# Altium footprint library IC-WBGA.PcbLib: 2 footprints
Each footprint in its own frame and in the unit in brackets; x right, y up, seen from the top. Pads: shape width x height; smd on the part's side, far side on the other; paste and mask are expansions set on the pad; w line width, h text height; cw(c..) or ccw(c..) is an arc to the next point about the centre after c.
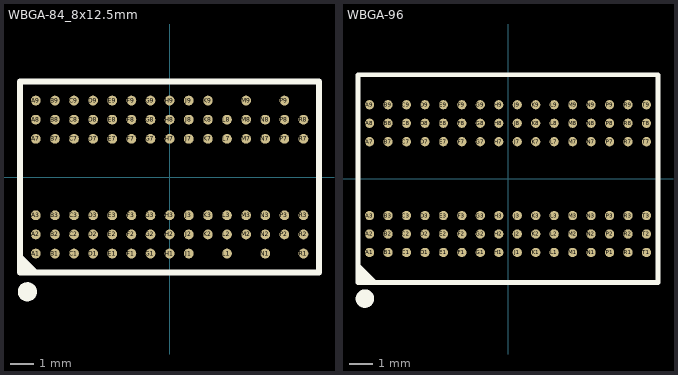
[diagram p0: the footprints below, top view; thin cyan lines are the x and y axes]

## WBGA-84_8x12.5mm [mm]
pads (84):
  round 0.41 smd mask+0.051: A1(-5.6,-3.2) A2(-5.6,-2.4) A3(-5.6,-1.6) A7(-5.6,1.6) A8(-5.6,2.4) A9(-5.6,3.2) B1(-4.8,-3.2) B2(-4.8,-2.4) B3(-4.8,-1.6) B7(-4.8,1.6) B8(-4.8,2.4) B9(-4.8,3.2) C1(-4,-3.2) C2(-4,-2.4) C3(-4,-1.6) C7(-4,1.6) C8(-4,2.4) C9(-4,3.2) D1(-3.2,-3.2) D2(-3.2,-2.4) D3(-3.2,-1.6) D7(-3.2,1.6) D8(-3.2,2.4) D9(-3.2,3.2) E1(-2.4,-3.2) E2(-2.4,-2.4) E3(-2.4,-1.6) E7(-2.4,1.6) E8(-2.4,2.4) E9(-2.4,3.2) F1(-1.6,-3.2) F2(-1.6,-2.4) F3(-1.6,-1.6) F7(-1.6,1.6) F8(-1.6,2.4) F9(-1.6,3.2) G1(-0.8,-3.2) G2(-0.8,-2.4) G3(-0.8,-1.6) G7(-0.8,1.6) G8(-0.8,2.4) G9(-0.8,3.2) H1(0,-3.2) H2(0,-2.4) H3(0,-1.6) H7(0,1.6) H8(0,2.4) H9(0,3.2) J1(0.8,-3.2) J2(0.8,-2.4) J3(0.8,-1.6) J7(0.8,1.6) J8(0.8,2.4) J9(0.8,3.2) K2(1.6,-2.4) K3(1.6,-1.6) K7(1.6,1.6) K8(1.6,2.4) K9(1.6,3.2) L1(2.4,-3.2) L2(2.4,-2.4) L3(2.4,-1.6) L7(2.4,1.6) L8(2.4,2.4) M2(3.2,-2.4) M3(3.2,-1.6) M7(3.2,1.6) M8(3.2,2.4) M9(3.2,3.2) N1(4,-3.2) N2(4,-2.4) N3(4,-1.6) N7(4,1.6) N8(4,2.4) P2(4.8,-2.4) P3(4.8,-1.6) P7(4.8,1.6) P8(4.8,2.4) P9(4.8,3.2) R1(5.6,-3.2) R2(5.6,-2.4) R3(5.6,-1.6) R7(5.6,1.6) R8(5.6,2.4)
Top Overlay:
  circle w0.4: c-5.95,-4.8 r0.2
  region: -6.3,-4.07 -5.369,-4.07 -6.296,-3.143 -6.3,-3.143
  lines w0.254: -6.25,-4 6.25,-4 6.25,4 -6.25,4 -6.25,-4

## WBGA-96 [mm]
pads (96):
  round 0.4 smd mask+0.051: A1(-6,-3.2) A2(-6,-2.4) A3(-6,-1.6) A7(-6,1.6) A8(-6,2.4) A9(-6,3.2) B1(-5.2,-3.2) B2(-5.2,-2.4) B3(-5.2,-1.6) B7(-5.2,1.6) B8(-5.2,2.4) B9(-5.2,3.2) C1(-4.4,-3.2) C2(-4.4,-2.4) C3(-4.4,-1.6) C7(-4.4,1.6) C8(-4.4,2.4) C9(-4.4,3.2) D1(-3.6,-3.2) D2(-3.6,-2.4) D3(-3.6,-1.6) D7(-3.6,1.6) D8(-3.6,2.4) D9(-3.6,3.2) E1(-2.8,-3.2) E2(-2.8,-2.4) E3(-2.8,-1.6) E7(-2.8,1.6) E8(-2.8,2.4) E9(-2.8,3.2) F1(-2,-3.2) F2(-2,-2.4) F3(-2,-1.6) F7(-2,1.6) F8(-2,2.4) F9(-2,3.2) G1(-1.2,-3.2) G2(-1.2,-2.4) G3(-1.2,-1.6) G7(-1.2,1.6) G8(-1.2,2.4) G9(-1.2,3.2) H1(-0.4,-3.2) H2(-0.4,-2.4) H3(-0.4,-1.6) H7(-0.4,1.6) H8(-0.4,2.4) H9(-0.4,3.2) J1(0.4,-3.2) J2(0.4,-2.4) J3(0.4,-1.6) J7(0.4,1.6) J8(0.4,2.4) J9(0.4,3.2) K1(1.2,-3.2) K2(1.2,-2.4) K3(1.2,-1.6) K7(1.2,1.6) K8(1.2,2.4) K9(1.2,3.2) L1(2,-3.2) L2(2,-2.4) L3(2,-1.6) L7(2,1.6) L8(2,2.4) L9(2,3.2) M1(2.8,-3.2) M2(2.8,-2.4) M3(2.8,-1.6) M7(2.8,1.6) M8(2.8,2.4) M9(2.8,3.2) N1(3.6,-3.2) N2(3.6,-2.4) N3(3.6,-1.6) N7(3.6,1.6) N8(3.6,2.4) N9(3.6,3.2) P1(4.4,-3.2) P2(4.4,-2.4) P3(4.4,-1.6) P7(4.4,1.6) P8(4.4,2.4) P9(4.4,3.2) R1(5.2,-3.2) R2(5.2,-2.4) R3(5.2,-1.6) R7(5.2,1.6) R8(5.2,2.4) R9(5.2,3.2) T1(6,-3.2) T2(6,-2.4) T3(6,-1.6) T7(6,1.6) T8(6,2.4) T9(6,3.2)
Top Overlay:
  circle w0.4: c-6.2,-5.2 r0.2
  region: -6.5,-4.563 -5.569,-4.563 -6.496,-3.637 -6.5,-3.637
  lines w0.2: -6.5,-4.5 6.5,-4.5 6.5,4.5 -6.5,4.5 -6.5,-4.5